# Altium footprint library samtec_ftsh-107-01-l-dv-k-a.PcbLib: 1 footprints
Each footprint in its own frame and in the unit in brackets; x right, y up, seen from the top. Pads: shape width x height; smd on the part's side, far side on the other; paste and mask are expansions set on the pad; w line width, h text height; cw(c..) or ccw(c..) is an arc to the next point about the centre after c.
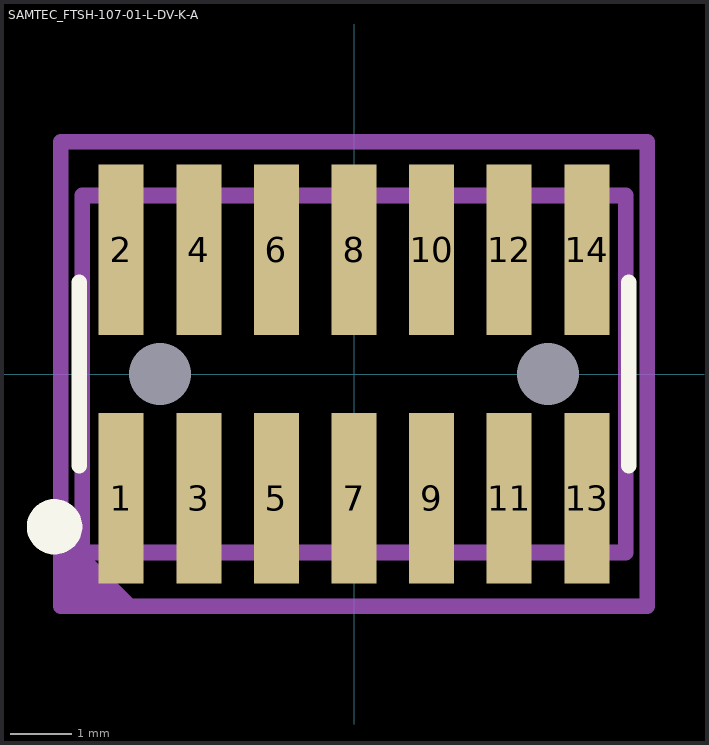
[diagram p0: the footprint, top view; thin cyan lines are the x and y axes]

## SAMTEC_FTSH-107-01-L-DV-K-A [mil]
pads (16):
  rect 0x0 hole 40 unplated: 0(-125,0) 0(125,0)
  rect 29x110 smd: 1(-150,-80) 2(-150,80) 3(-100,-80) 4(-100,80) 5(-50,-80) 6(-50,80) 7(0,-80) 8(0,80) 9(50,-80) 10(50,80) 11(100,-80) 12(100,80) 13(150,-80) 14(150,80)
Top Overlay:
  circle w20: c-192.91,-98.43 r7.87
  lines w10: -177.17,-59.06 -177.17,59.06 ; 177.17,-59.06 177.17,59.06
Top 3D Body (Mech13):
  lines w10: -175,-115 -175,115 175,115 175,-115 -175,-115
Top Courtyard:
  region: -188.98,-149.61 -188.98,-98.43 -137.8,-149.61
  lines w10: -188.98,-149.61 -188.98,149.61 188.98,149.61 188.98,-149.61 -188.98,-149.61
Top Designator:
  text ".Designator" at -86.49,-14.1 h40
3D body "FTSH-107-01-L-DV-K-A.stp": height 241.5, standoff -33.5, extent -175,-115 175,115